# EAGLE library part MIC23303YML-TR (library MIC23303YML-TR)
Conv DC-DC 2.7V to 5.5V Synchronous Step Down Single-Out 0.65V to 3.6V 3A 12-Pin DFN EP T/R Source: Datasheet <http://www.microchip.com/mymicrochip/filehandler.aspx?ddocname=en580343>
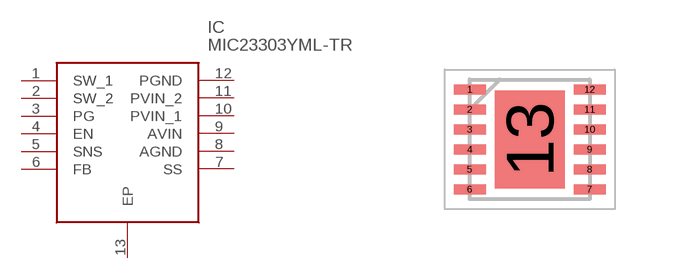
[diagram p0: symbol with the pads of SON50P300X300X90-13N; footprint SON50P300X300X90-13N]

Designator prefix IC

## MIC23303YML-TR (Description: Conv DC-DC 2.7V to 5.5V Synchronous Step Down Single-Out 0.65V to 3.6V 3A 12-Pin DFN EP T/R; Height: 0.9mm; Manufacturer_Name: Microchip; Manufacturer_Part_Number: MIC23303YML-TR; Mouser_Part_Number: 998-MIC23303YMLTR; Mouser_Price-Stock: https://www.mouser.co.uk/ProductDetail/Microchip-Technology-Micrel/MIC23303YML-TR?qs=Y3Q3JoKAO1Rutw%2FCoJCU2w%3D%3D)  [SON50P300X300X90-13N]
1  SW_1
2  SW_2
3  PG
4  EN
5  SNS
6  FB
7  SS
8  AGND
9  AVIN
10  PVIN_1
11  PVIN_2
12  PGND
13  EP

## Footprint SON50P300X300X90-13N (pad centres in mm)
12-PIN 3MMX3MM MLF
smd 0.8 x 0.25: 1 -1.5,1.25; 2 -1.5,0.75; 3 -1.5,0.25; 4 -1.5,-0.25; 5 -1.5,-0.75; 6 -1.5,-1.25; 7 1.5,-1.25; 8 1.5,-0.75; 9 1.5,-0.25; 10 1.5,0.25; 11 1.5,0.75; 12 1.5,1.25
smd 1.75 x 2.45: 13 0,0